# EAGLE library part RJ45-8 (library GW-devices)
RJ45 Jack MFG part number 54602-908lf
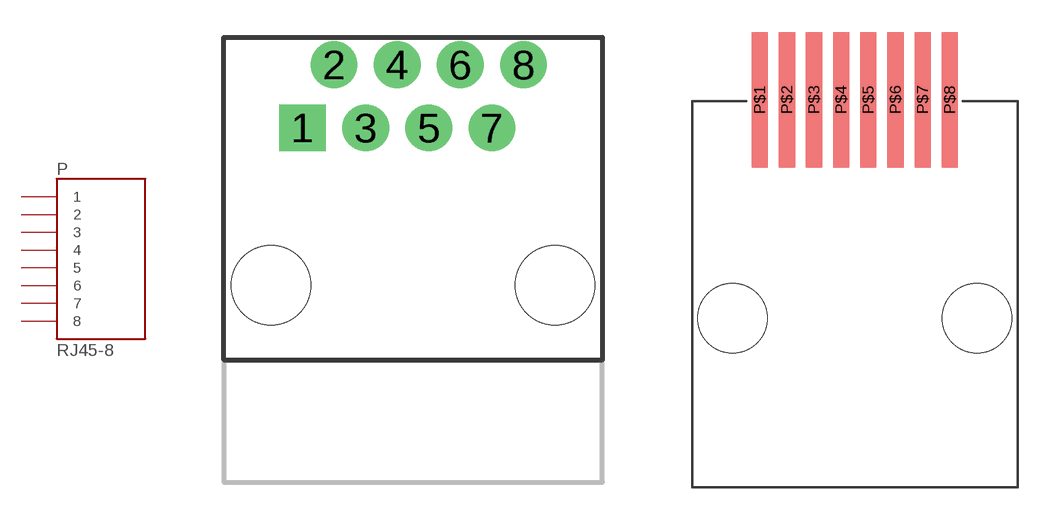
[diagram p53: symbol with the pads of RJ45-8; footprints RJ45-8, MOLEX-0955016889]

Designator prefix P

## RJ45-8PTH  [RJ45-8]
1  1
2  2
3  3
4  4
5  5
6  6
7  7
8  8

## RJ45-8PEGMOUNT  [MOLEX-0955016889]
P$1  1
P$2  2
P$3  3
P$4  4
P$5  5
P$6  6
P$7  7
P$8  8

## RJ45-8SOLDERMOUNT  [RJLSE4208101T]
Pads as for MOLEX-0955016889

## Footprint RJ45-8 (pad centres in mm)
drill 1 pad 1.88 square: 1 -4.445,6.35
drill 1 pad 1.88: 2 -3.175,8.89; 3 -1.905,6.35; 4 -0.635,8.89; 5 0.635,6.35; 6 1.905,8.89; 7 3.175,6.35; 8 4.445,8.89
hole 3.2 at -5.715,0
hole 3.2 at 5.715,0

## Footprint MOLEX-0955016889 (pad centres in mm)
smd 0.76 x 6.35: P$1 -4.45,10.225; P$2 -3.18,10.225; P$3 -1.91,10.225; P$4 -0.64,10.225; P$5 0.63,10.225; P$6 1.905,10.225; P$7 3.175,10.225; P$8 4.445,10.225
hole 3.25 at -5.715,0
hole 3.25 at 5.715,0

## Footprint RJLSE4208101T (pad centres in mm)
smd 0.635 x 4.75: P$1 -4.445,0; P$2 -3.175,0; P$3 -1.905,0; P$4 -0.635,0; P$5 0.635,0; P$6 1.905,0; P$7 3.175,0; P$8 4.445,0
smd 2.54 x 5.207: P$9 -6.35,-11.633; P$10 6.35,-11.633